# Altium schematic symbol library SCH - MCU - NUVOTON - NUVOTON NUC100RD2DN.SchLib: 1 symbol
Pins are listed as number, name and electrical type; pins without a type are passive.

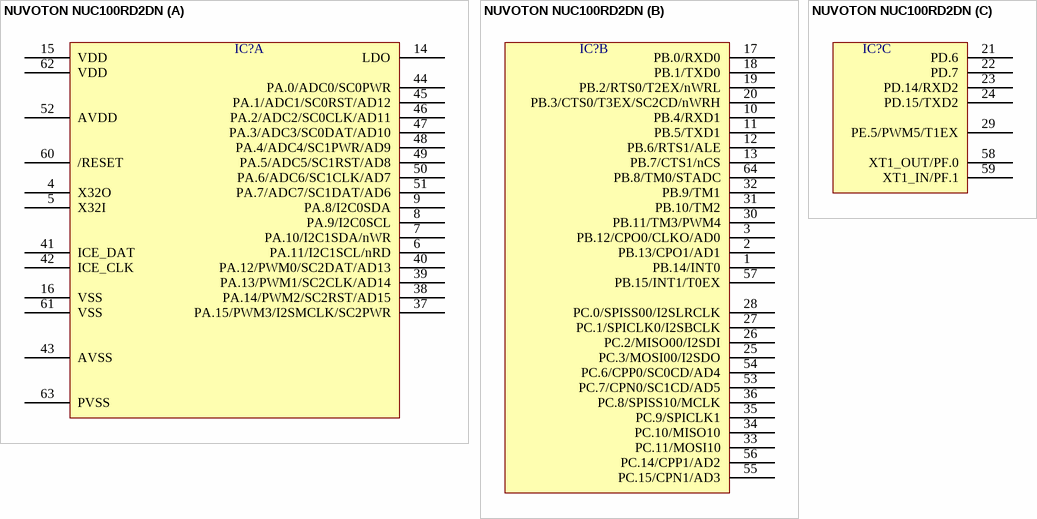
[diagram p0: symbol NUVOTON NUC100RD2DN]

## NUVOTON NUC100RD2DN
designator IC?  (value not drawn)
part A pins: 4 X32O, 5 X32I, 6 PA.11/I2C1SCL/nRD, 7 PA.10/I2C1SDA/nWR, 8 PA.9/I2C0SCL, 9 PA.8/I2C0SDA, 14 LDO, 15 VDD, 16 VSS, 37 PA.15/PWM3/I2SMCLK/SC2PWR, 38 PA.14/PWM2/SC2RST/AD15, 39 PA.13/PWM1/SC2CLK/AD14, 40 PA.12/PWM0/SC2DAT/AD13, 41 ICE_DAT, 42 ICE_CLK, 43 AVSS, 44 PA.0/ADC0/SC0PWR, 45 PA.1/ADC1/SC0RST/AD12, 46 PA.2/ADC2/SC0CLK/AD11, 47 PA.3/ADC3/SC0DAT/AD10, 48 PA.4/ADC4/SC1PWR/AD9, 49 PA.5/ADC5/SC1RST/AD8, 50 PA.6/ADC6/SC1CLK/AD7, 51 PA.7/ADC7/SC1DAT/AD6, 52 AVDD, 60 /RESET, 61 VSS, 62 VDD, 63 PVSS
part B pins: 1 PB.14/INT0, 2 PB.13/CPO1/AD1, 3 PB.12/CPO0/CLKO/AD0, 10 PB.4/RXD1, 11 PB.5/TXD1, 12 PB.6/RTS1/ALE, 13 PB.7/CTS1/nCS, 17 PB.0/RXD0, 18 PB.1/TXD0, 19 PB.2/RTS0/T2EX/nWRL, 20 PB.3/CTS0/T3EX/SC2CD/nWRH, 25 PC.3/MOSI00/I2SDO, 26 PC.2/MISO00/I2SDI, 27 PC.1/SPICLK0/I2SBCLK, 28 PC.0/SPISS00/I2SLRCLK, 30 PB.11/TM3/PWM4, 31 PB.10/TM2, 32 PB.9/TM1, 33 PC.11/MOSI10, 34 PC.10/MISO10, 35 PC.9/SPICLK1, 36 PC.8/SPISS10/MCLK, 53 PC.7/CPN0/SC1CD/AD5, 54 PC.6/CPP0/SC0CD/AD4, 55 PC.15/CPN1/AD3, 56 PC.14/CPP1/AD2, 57 PB.15/INT1/T0EX, 64 PB.8/TM0/STADC
part C pins: 21 PD.6, 22 PD.7, 23 PD.14/RXD2, 24 PD.15/TXD2, 29 PE.5/PWM5/T1EX, 58 XT1_OUT/PF.0, 59 XT1_IN/PF.1